# Altium schematic symbol library CAZN_M12-P4A-GPL_M12.SCHLIB: 1 symbol
Pins are listed as number, name and electrical type; pins without a type are passive.

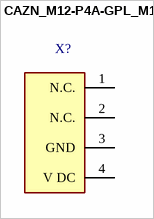
[diagram p0: symbol CAZN_M12-P4A-GPL_M12]

## CAZN_M12-P4A-GPL_M12
designator X?
pins: 1 N.C., 2 N.C., 3 GND (power), 4 V DC (power)